# Altium footprint library Wurth_Elektronik_Passive_rev16a.PCBLIB: 810 footprints (part 8 of 51)
Each footprint in its own frame and in the unit in brackets; x right, y up, seen from the top. Pads: shape width x height; smd on the part's side, far side on the other; paste and mask are expansions set on the pad; w line width, h text height; cw(c..) or ccw(c..) is an arc to the next point about the centre after c.
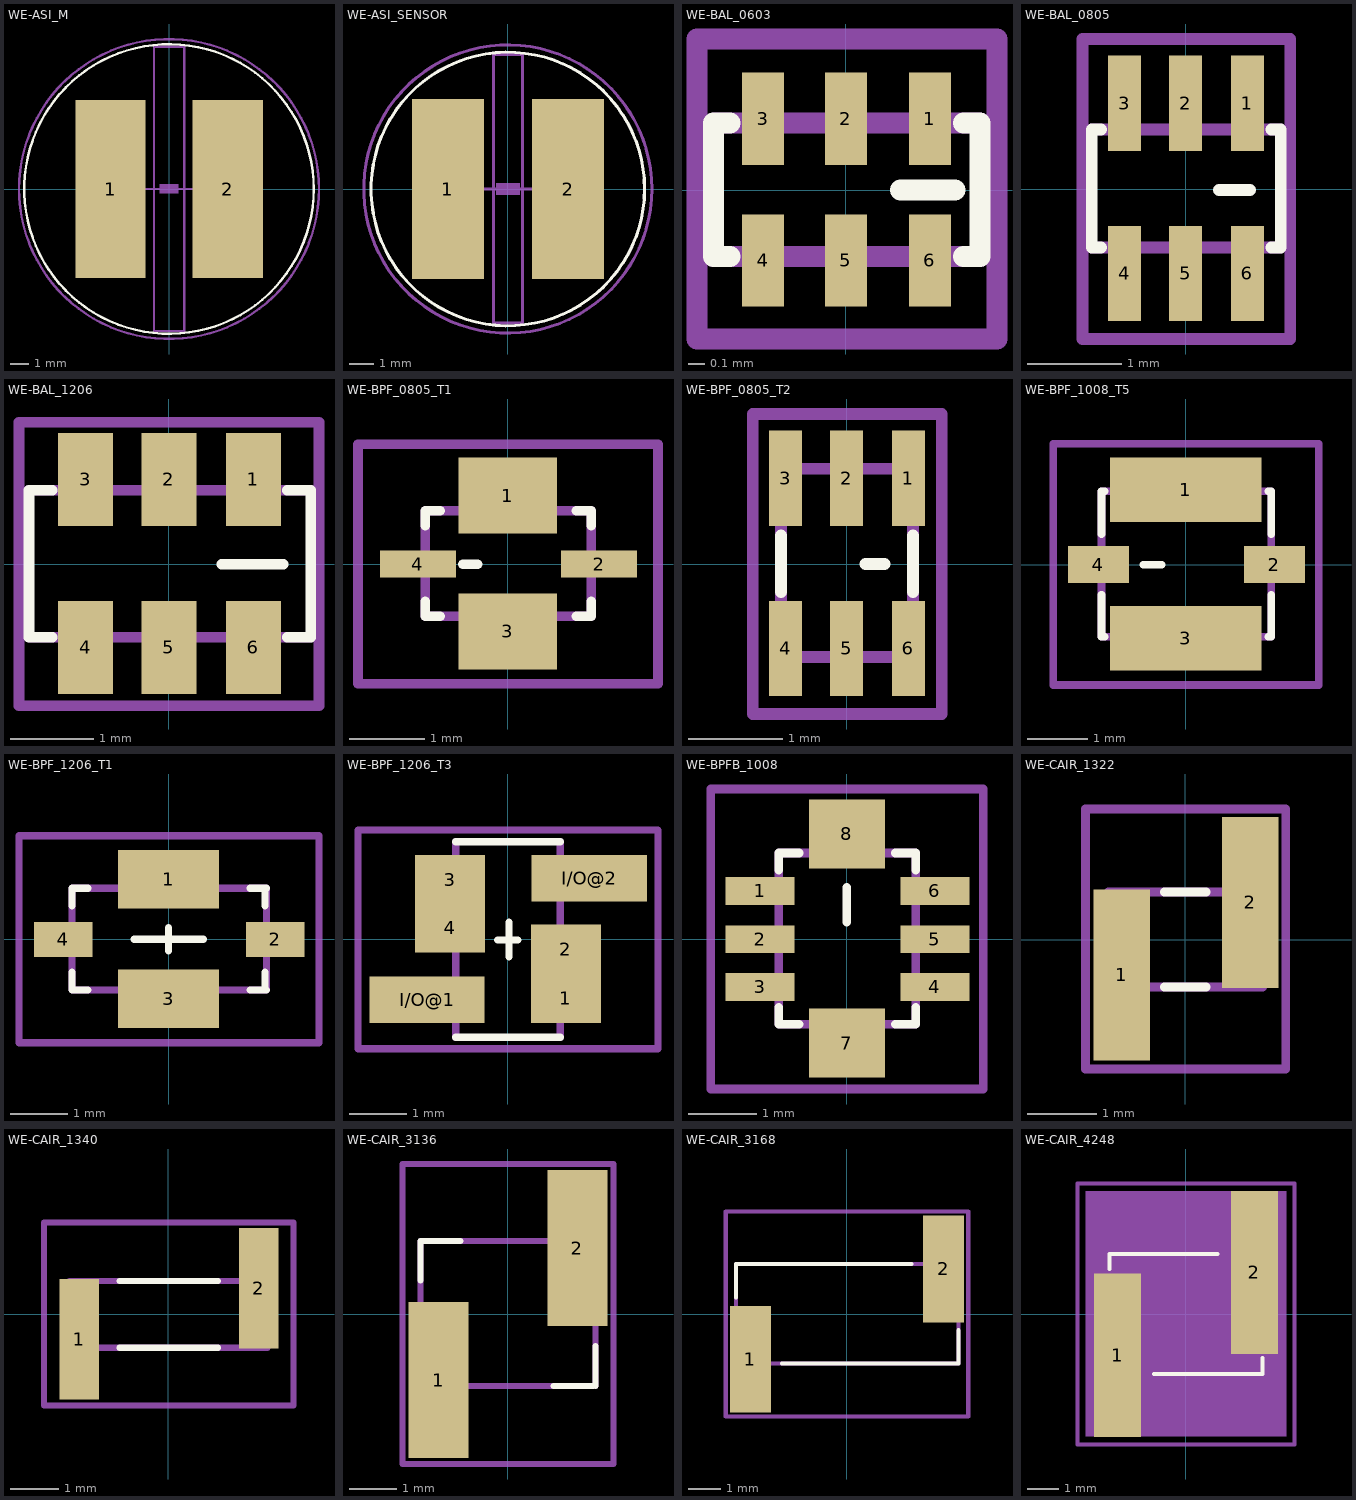
[diagram p7: the footprints below, top view; thin cyan lines are the x and y axes]

## WE-ASI_M [mil]
pads (2):
  rect 148x375 smd: 1(-123.03,0) 2(124,0)
Top Overlay:
  circle w5: c0,0 r305
Mechanical 2:
  text ">NAME" at -221.56,329 h77.5
Mechanical 4:
  text ">VALUE" at -230.02,-396.56 h77.5
Mechanical 10:
  lines w5: -31.5,-299.21 -31.5,300 32,300 32,-299.21 -31.5,-299.21
Mechanical 16:
  region: 19.92,-9.76 19.92,10.08 -19.76,10.08 -19.76,-9.76
  lines w5: -100.39,0 99,0
Mechanical 27:
  circle w5: c0,0 r316

## WE-ASI_SENSOR [mil]
pads (2):
  rect 119x296 smd: 1(-98.43,0) 2(99,0)
Top Overlay:
  circle w5: c0,0 r225
Mechanical 2:
  text ">NAME" at -137.5,-312.5 h77.5
Mechanical 4:
  text ">VALUE" at -137.5,238 h77.5
Mechanical 10:
  lines w5: -23.62,-220.47 -23.62,221 24,221 24,-220.47 -23.62,-220.47
Mechanical 16:
  region: 19.92,-9.76 19.92,10.08 -19.76,10.08 -19.76,-9.76
  lines w5: -98.43,0 99,0
Mechanical 27:
  circle w5: c0,0 r237

## WE-BAL_0603 [mil]
pads (6):
  rect 10x22 smd: 1(20,17) 2(0,17) 3(-19.68,17) 4(-19.68,-16.73) 5(0,-16.73) 6(20,-16.73)
Top Overlay:
  lines w5: -27.56,-15.75 -31.5,-15.75 -31.5,16 -27.56,16 ; 13,0 26,0 ; 28,-15.75 32,-15.75 32,16 28,16
Mechanical 2:
  text ">NAME" at -57.48,-113.39 h77.5
Mechanical 4:
  text ">VALUE" at 108,-100.79 h77.5
Mechanical 16:
  lines w5: -31.5,-15.75 32,-15.75 ; -31.5,16 32,16
Mechanical 27:
  lines w5: -35.43,-35.43 -35.43,36 36,36 36,-35.43 -35.43,-35.43

## WE-BAL_0805 [mil]
pads (6):
  rect 14x40 smd: 1(26,36) 2(0,36) 3(-25.59,36) 4(-25.59,-35.43) 5(0,-35.43) 6(26,-35.43)
Top Overlay:
  lines w5: -35.43,-24.61 -39.37,-24.61 -39.37,25 -35.43,25 ; 14,-0.39 27,-0.39 ; 36,-24.61 40,-24.61 40,25 36,25
Mechanical 2:
  text ">NAME" at -57.09,-74.8 h77.5
Mechanical 4:
  text ">VALUE" at 105,-74.41 h77.5
Mechanical 16:
  lines w5: -39.37,-24.61 40,-24.61 ; -39.37,25 40,25
Mechanical 27:
  lines w5: -43.31,-62.99 -43.31,63 44,63 44,-62.99 -43.31,-62.99

## WE-BAL_1206 [mil]
pads (6):
  rect 26x44 smd: 1(40,40) 2(0,40) 3(-39.37,40) 4(-39.37,-39.37) 5(0,-39.37) 6(40,-39.37)
Top Overlay:
  lines w5: -55.12,-34.65 -66.14,-34.65 -66.14,35 -55.12,35 ; 25,0 54,0 ; 56,-34.65 67,-34.65 67,35 56,35
Mechanical 2:
  text ">NAME" at -107.09,75 h77.5
Mechanical 4:
  text ">VALUE" at -97.24,-122.44 h77.5
Mechanical 16:
  lines w5: -66.14,-34.65 67,-34.65 ; -66.14,35 67,35
Mechanical 27:
  lines w5: -70.87,-66.93 -70.87,67 71,67 71,-66.93 -70.87,-66.93

## WE-BPF_0805_T1 [mil]
pads (4):
  rect 52x40 smd: 1(0,36) 3(0,-35.43)
  rect 40x14 smd: 2(48,0) 4(-47.24,0)
Top Overlay:
  lines w5: -43.31,-19.68 -43.31,-27.56 -35.43,-27.56 ; -43.31,20 -43.31,28 -35.43,28 ; -23.62,0 -15.75,0 ; 36,-27.56 44,-27.56 44,-19.68 ; 36,28 44,28 44,20
Mechanical 2:
  text ">NAME" at -118.11,79 h77.5
Mechanical 4:
  text ">VALUE" at -118.11,-118.11 h77.5
Mechanical 16:
  lines w5: -43.31,-27.56 44,-27.56 44,28 -43.31,28 -43.31,-27.56
Mechanical 27:
  lines w5: -78.74,-62.99 -78.74,63 79,63 79,-62.99 -78.74,-62.99

## WE-BPF_0805_T2 [mil]
pads (6):
  rect 14x40 smd: 1(26,36) 2(0,36) 3(-25.59,36) 4(-25.59,-35.43) 5(0,-35.43) 6(26,-35.43)
Top Overlay:
  lines w5: -27.56,-11.81 -27.56,12 ; 8,0 16,0 ; 28,-11.81 28,12
Mechanical 2:
  text ">NAME" at -78.74,-118.11 h77.5
Mechanical 4:
  text ">VALUE" at 119,-118.11 h77.5
Mechanical 16:
  lines w5: -27.56,-39.37 -27.56,-38.98 ; -27.56,-38.98 -27.56,40 28,40 28,-38.98 -27.56,-38.98
Mechanical 27:
  lines w5: -39.37,-62.99 -39.37,63 40,63 40,-62.99 -39.37,-62.99

## WE-BPF_1008_T5 [mil]
pads (4):
  rect 99x42 smd: 1(0,49) 3(0,-48.23)
  rect 40x24 smd: 2(58,0) 4(-57.09,0)
Top Overlay:
  lines w5: -55.12,-19.68 -55.12,-47.24 -53.15,-47.24 ; -55.12,20 -55.12,48 -53.15,48 ; -27.56,0 -15.75,0 ; 54,-47.24 56,-47.24 56,-19.68 ; 54,48 56,48 56,20
Mechanical 2:
  text ">NAME" at -118.11,95 h77.5
Mechanical 4:
  text ">VALUE" at -118.11,-157.48 h77.5
Mechanical 16:
  lines w5: -55.12,-47.24 56,-47.24 56,48 -55.12,48 -55.12,-47.24
Mechanical 27:
  lines w5: -86.61,-78.74 -86.61,79 87,79 87,-78.74 -86.61,-78.74

## WE-BPF_1206_T1 [mil]
pads (4):
  rect 69x40 smd: 1(0,41) 3(0,-40.55)
  rect 40x24 smd: 2(73,0) 4(-72.05,0)
Top Overlay:
  lines w5: -66.14,-22.44 -66.14,-34.65 -55.12,-34.65 ; -66.14,23 -66.14,35 -55.12,35 ; -23.62,0 24,0 ; 0,-7.87 0,8 ; 56,-34.65 66,-34.65 ; 56,35 67,35 ; 66,-22.44 66,-34.65 ; 66,23 66,35 ; 67,-34.65 66,-34.65
Mechanical 2:
  text ">NAME" at -122.44,74 h77.5
Mechanical 4:
  text ">VALUE" at -112.2,-126.38 h77.5
Mechanical 16:
  lines w5: -66.14,-34.65 67,-34.65 67,35 -66.14,35 -66.14,-34.65
Mechanical 27:
  lines w5: -102.36,-70.87 -102.36,71 103,71 103,-70.87 -102.36,-70.87

## WE-BPF_1206_T3 [mil]
pads (6):
  rect 48x34 smd: 1(40,-40.16) 2(40,-6.69) 3(-39.37,41) 4(-39.37,8)
  rect 79x32 smd: I/O@1(-55.12,-41.34) I/O@2(56,42)
Top Overlay:
  lines w5: -35.43,-66.93 36,-66.93 ; -35.43,67 36,67 ; -6.69,-0.39 7,-0.39 ; 1,-11.81 1,12
Mechanical 2:
  text ">NAME" at -114.57,85 h77.5
Mechanical 4:
  text ">VALUE" at -108.27,-132.68 h77.5
Mechanical 16:
  lines w5: -35.43,-66.93 -35.43,67 ; 36,-66.93 36,67
Mechanical 27:
  lines w5: -102.36,-74.8 -102.36,75 103,75 103,-74.8 -102.36,-74.8

## WE-BPFB_1008 [mil]
pads (8):
  rect 40x16 smd: 1(-50.2,28) 2(-50.2,0) 3(-50.2,-27.56) 4(51,-27.56) 5(51,0) 6(51,28)
  rect 44x40 smd: 7(0,-60.04) 8(0,61)
Top Overlay:
  lines w5: -39.37,-39.37 -39.37,-49.21 -27.56,-49.21 ; -39.37,40 -39.37,50 -27.56,50 ; 0,10 0,30 ; 28,-49.21 40,-49.21 40,-39.37 ; 28,50 40,50 40,40
Mechanical 2:
  text ">NAME" at -118.11,119 h77.5
Mechanical 4:
  text ">VALUE" at -118.11,-157.48 h77.5
Mechanical 16:
  lines w5: -39.37,-49.21 40,-49.21 40,50 -39.37,50 -39.37,-49.21
Mechanical 27:
  lines w5: -78.74,-86.61 -78.74,87 79,87 79,-86.61 -78.74,-86.61

## WE-CAIR_1322 [mil]
pads (2):
  rect 32x97 smd: 1(-36.02,-20.08) 2(37,21)
Top Overlay:
  lines w5: -11.81,-26.97 12,-26.97 ; -11.81,27 12,27
Mechanical 2:
  text ">NAME" at -66.93,87 h37.2
Mechanical 4:
  text ">VALUE" at -74.8,-114.17 h37.2
Mechanical 16:
  lines w5: -43.5,-26.97 44,-26.97 44,27 -43.5,27 -43.5,-26.97
Mechanical 27:
  lines w5: -56.5,-73.43 57,-73.43 57,74 -56.5,74 -56.5,-73.43

## WE-CAIR_1340 [mil]
pads (2):
  rect 32x97 smd: 1(-72.05,-20.08) 2(73,21)
Top Overlay:
  lines w5: -39.37,-26.97 40,-26.97 ; -39.37,27 40,27
Mechanical 2:
  text ">NAME" at -66.93,87 h37.2
Mechanical 4:
  text ">VALUE" at -74.8,-114.17 h37.2
Mechanical 16:
  lines w5: -79.53,-26.97 80,-26.97 80,27 -79.53,27 -79.53,-26.97
Mechanical 27:
  lines w5: -100.39,-73.43 101,-73.43 101,74 -100.39,74 -100.39,-73.43

## WE-CAIR_3136 [mil]
pads (2):
  rect 50x130 smd: 1(-57.48,-54.92) 2(58,55)
Top Overlay:
  lines w5: -72.44,28 -72.44,61 -39.37,61 ; 38,-60.04 71,-60.04 ; 73,-60.04 73,-26.57
Mechanical 2:
  text ">NAME" at -90.55,142 h37.2
Mechanical 4:
  text ">VALUE" at -86.61,-173.23 h37.2
Mechanical 16:
  lines w5: -72.44,-60.04 73,-60.04 73,61 -72.44,61 -72.44,-60.04
Mechanical 27:
  lines w5: -87.4,-124.8 88,-124.8 88,125 -87.4,125 -87.4,-124.8

## WE-CAIR_3168 [mil]
pads (2):
  rect 50x130 smd: 1(-117.52,-54.92) 2(118,55)
Top Overlay:
  lines w5: -135.04,20 -135.04,61 79,61 ; -78.74,-60.04 136,-60.04 136,-19.68
Mechanical 2:
  text ">NAME" at -78.74,150 h37.2
Mechanical 4:
  text ">VALUE" at -74.8,-165.35 h37.2
Mechanical 16:
  lines w5: -135.04,-60.04 136,-60.04 136,61 -135.04,61 -135.04,-60.04
Mechanical 27:
  lines w5: -147.44,-124.8 148,-124.8 148,125 -147.44,125 -147.44,-124.8

## WE-CAIR_4248 [mil]
pads (2):
  rect 59x204 smd: 1(-85.24,-51.57) 2(86,52)
Top Overlay:
  lines w5: -95.08,56 -95.08,75 40,75 ; -39.37,-75 96,-75 96,-55.12
Mechanical 2:
  text ">NAME" at -150,200 h77.5
Mechanical 4:
  text ">VALUE" at -150,-250 h77.5
Mechanical 10:
  rectangle: -125.2,-153.15 126,154
Mechanical 16:
  lines w5: -95.08,-75 -95.08,75 96,75 96,-75 -95.08,-75
Mechanical 27:
  lines w5: -135.04,-162.99 -135.04,163 136,163 136,-162.99 -135.04,-162.99